# Altium schematic symbol library Memory - EEPROM.SchLib: 163 symbols (part 1 of 3)
Pins are listed as number, name and electrical type; pins without a type are passive.

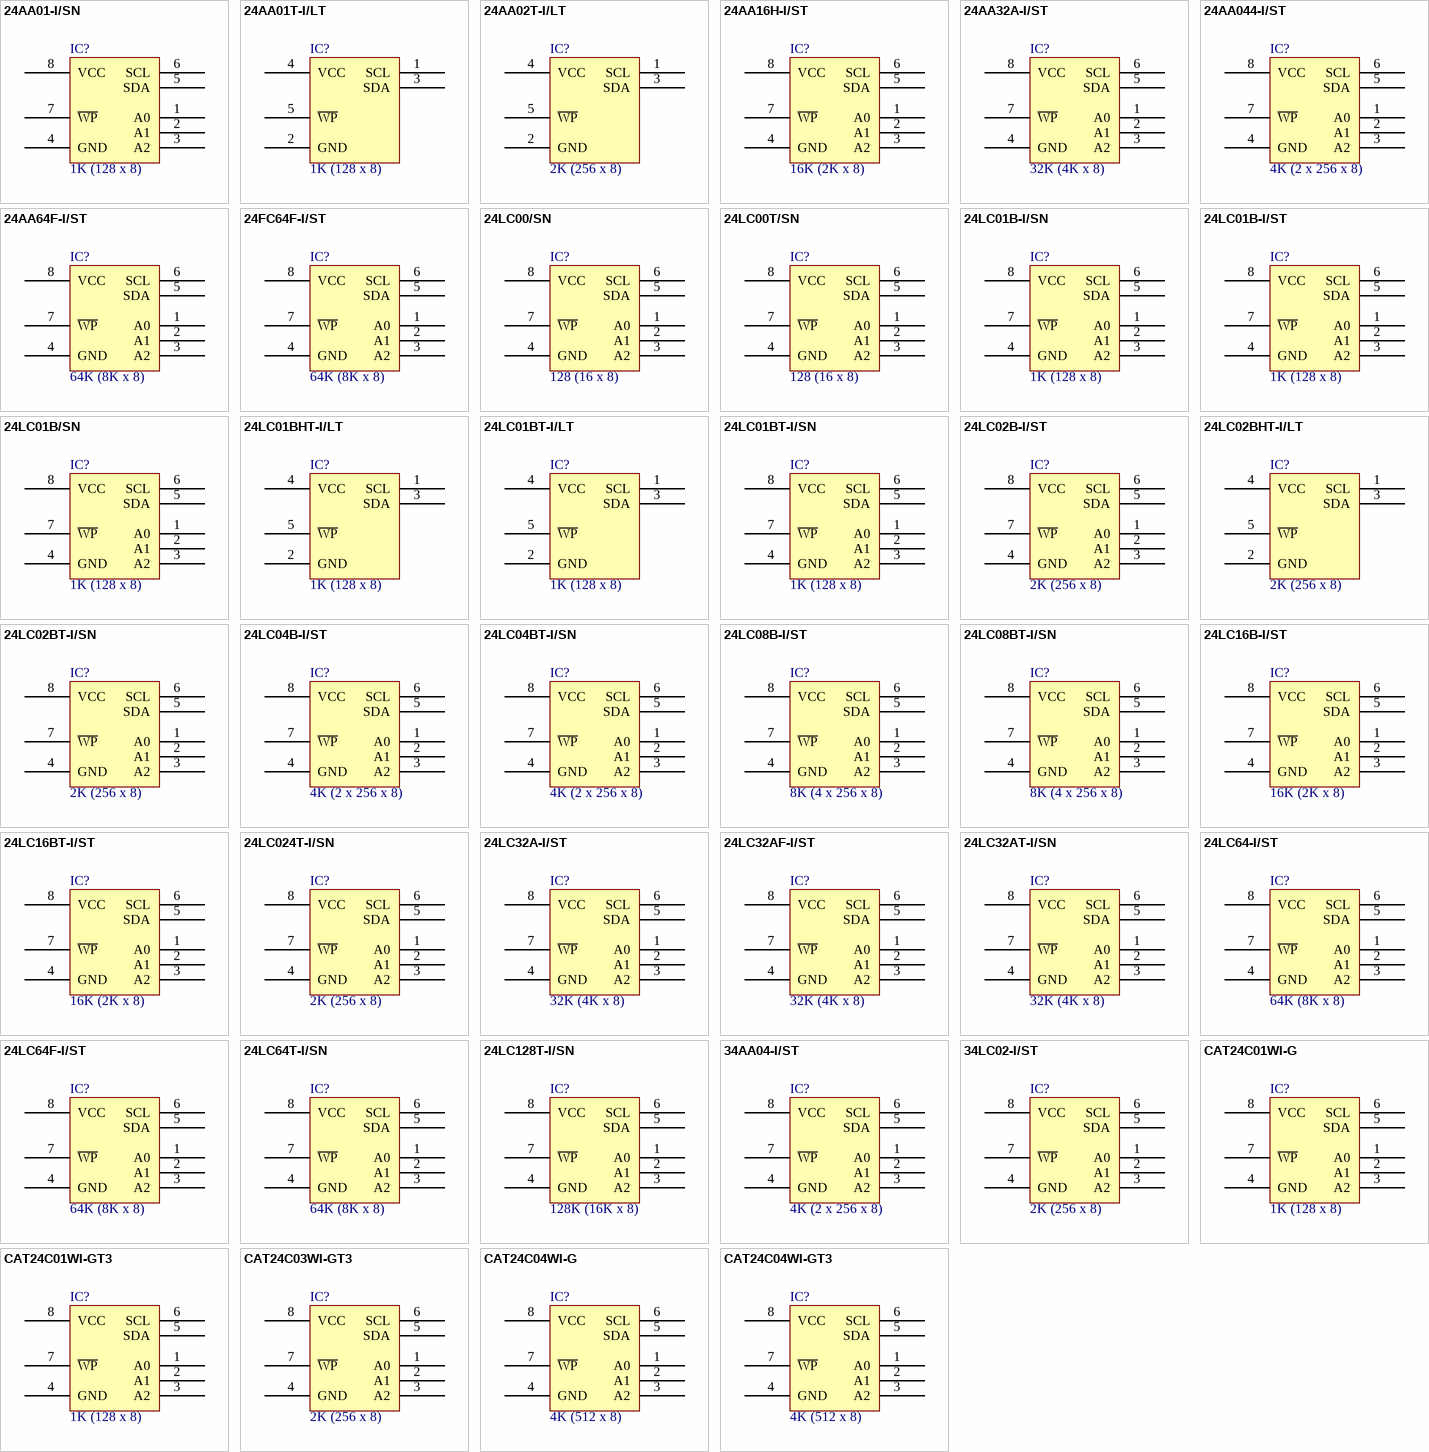
[diagram p0: symbols 24AA01-I/SN to CAT24C04WI-GT3]

## 24AA01-I/SN
designator IC?, comment 1K (128 x 8)
IC EEPROM 1KBIT 400KHZ 8SOIC; Part Number: 24AA01-I/SN; Manufacturer: Microchip Technology; Speed: 100kHz, 400kHz; Interface: IC, 2-Wire Serial; Voltage - Supply: 1.7 V ~ 5.5 V; PartId: 8385; Supplier 1: Digi-Key; Supplier Part Number 1: 24AA01-I/SN-ND; ComponentLink1Description: Datasheet; ComponentLink1URL: http://www.microchip.com/mymicrochip/filehandler.aspx?ddocname=en011831; ComponentLink2Description: Digi-Key Listing; ComponentLink2URL: http://www.digikey.com/product-detail/en/24AA01-I%2FSN/24AA01-I%2FSN-ND/318538; Price: 0.2; Type: EEPROM; Device Package: 8-SOIC (0.154", 3.90mm Width); Operating Temperature: -40C ~ 85C; Memory Type: EEPROM; Memory Size: 1K (128 x 8)
footprint MICROCHIP SOIC-8 150mil Wide
pins: 1 A0, 2 A1, 3 A2, 4 GND, 5 SDA, 6 SCL, 7 ~{WP}, 8 VCC

## 24AA01T-I/LT
designator IC?, comment 1K (128 x 8)
IC EEPROM 1KBIT 400KHZ SC70-5; Part Number: 24AA01T-I/LT; Manufacturer: Microchip Technology; Speed: 100kHz, 400kHz; Interface: IC, 2-Wire Serial; Voltage - Supply: 1.7 V ~ 5.5 V; PartId: 8396; Supplier 1: Digi-Key; Supplier Part Number 1: 24AA01T-I/LTTR-ND; ComponentLink1Description: Datasheet; ComponentLink1URL: http://www.microchip.com/mymicrochip/filehandler.aspx?ddocname=en011831; ComponentLink2Description: Digi-Key Listing; ComponentLink2URL: http://www.digikey.com/product-detail/en/24AA01T-I%2FLT/24AA01T-I%2FLTTR-ND/2059597; Price: 0.2; Type: EEPROM; Device Package: 5-TSSOP, SC-70-5, SOT-353; Operating Temperature: -40C ~ 85C; Memory Type: EEPROM; Memory Size: 1K (128 x 8)
footprint MICROCHIP SC70-5 LT
pins: 1 SCL, 2 GND, 3 SDA, 4 VCC, 5 ~{WP}

## 24AA02T-I/LT
designator IC?, comment 2K (256 x 8)
IC EEPROM 2KBIT 400KHZ SC70-5; Part Number: 24AA02T-I/LT; Manufacturer: Microchip Technology; Speed: 100kHz, 400kHz; Interface: IC, 2-Wire Serial; Voltage - Supply: 1.7 V ~ 5.5 V; PartId: 8398; Supplier 1: Digi-Key; Supplier Part Number 1: 24AA02T-I/LTTR-ND; ComponentLink1Description: Datasheet; ComponentLink1URL: http://www.microchip.com/mymicrochip/filehandler.aspx?ddocname=en011845; ComponentLink2Description: Digi-Key Listing; ComponentLink2URL: http://www.digikey.com/product-detail/en/24AA02T-I%2FLT/24AA02T-I%2FLTTR-ND/2059604; Price: 0.22; Type: EEPROM; Device Package: 5-TSSOP, SC-70-5, SOT-353; Operating Temperature: -40C ~ 85C; Memory Type: EEPROM; Memory Size: 2K (256 x 8)
footprint MICROCHIP SC70-5 LT
pins: 1 SCL, 2 GND, 3 SDA, 4 VCC, 5 ~{WP}

## 24AA16H-I/ST
designator IC?, comment 16K (2K x 8)
IC EEPROM 16KBIT 400KHZ 8TSSOP; Part Number: 24AA16H-I/ST; Manufacturer: Microchip Technology; Speed: 100kHz, 400kHz; Interface: IC, 2-Wire Serial; Voltage - Supply: 1.7 V ~ 5.5 V; PartId: 8324; Supplier 1: Digi-Key; Supplier Part Number 1: 24AA16H-I/ST-ND; ComponentLink1Description: Datasheet; ComponentLink1URL: http://www.microchip.com/mymicrochip/filehandler.aspx?ddocname=en538685; ComponentLink2Description: Digi-Key Listing; ComponentLink2URL: http://www.digikey.com/product-detail/en/24AA16H-I%2FST/24AA16H-I%2FST-ND/2059792; Price: 0.32; Type: EEPROM; Device Package: 8-TSSOP (0.173", 4.40mm Width); Operating Temperature: -40C ~ 85C; Memory Type: EEPROM; Memory Size: 16K (2K x 8)
footprint MICROCHIP TSSOP-8 ST
pins: 1 A0, 2 A1, 3 A2, 4 GND, 5 SDA, 6 SCL, 7 ~{WP}, 8 VCC

## 24AA32A-I/ST
designator IC?, comment 32K (4K x 8)
IC EEPROM 32KBIT 400KHZ 8TSSOP; Part Number: 24AA32A-I/ST; Manufacturer: Microchip Technology; Speed: 100kHz, 400kHz; Interface: IC, 2-Wire Serial; Voltage - Supply: 1.7 V ~ 5.5 V; PartId: 8325; Supplier 1: Digi-Key; Supplier Part Number 1: 24AA32A-I/ST-ND; ComponentLink1Description: Datasheet; ComponentLink1URL: http://www.microchip.com/mymicrochip/filehandler.aspx?ddocname=en011853; ComponentLink2Description: Digi-Key Listing; ComponentLink2URL: http://www.digikey.com/product-detail/en/24AA32A-I%2FST/24AA32A-I%2FST-ND/443586; Price: 0.38; Type: EEPROM; Device Package: 8-TSSOP (0.173", 4.40mm Width); Operating Temperature: -40C ~ 85C; Memory Type: EEPROM; Memory Size: 32K (4K x 8)
footprint MICROCHIP TSSOP-8 ST
pins: 1 A0, 2 A1, 3 A2, 4 GND, 5 SDA, 6 SCL, 7 ~{WP}, 8 VCC

## 24AA044-I/ST
designator IC?, comment 4K (2 x 256 x 8)
IC SEEPROM 4KB 512X8 8TSSOP; Part Number: 24AA044-I/ST; Manufacturer: Microchip Technology; Memory Type: EEPROM; Speed: 100kHz, 400kHz, 1MHz; Interface: IC, 2-Wire Serial; Voltage - Supply: 1.7 V ~ 5.5 V; PartId: 8319; Supplier 1: Digi-Key; Supplier Part Number 1: 24AA044-I/ST-ND; ComponentLink1Description: Datasheet; ComponentLink1URL: http://www.microchip.com/mymicrochip/filehandler.aspx?ddocname=en569273; ComponentLink2Description: Digi-Key Listing; ComponentLink2URL: http://www.digikey.com/product-detail/en/24AA044-I%2FST/24AA044-I%2FST-ND/4842794; Price: 0.28; Type: EEPROM; Device Package: 8-TSSOP (0.173", 4.40mm Width); Operating Temperature: -40C ~ 85C; Memory Size: 4K (2 x 256 x 8)
footprint MICROCHIP TSSOP-8 ST
pins: 1 A0, 2 A1, 3 A2, 4 GND, 5 SDA, 6 SCL, 7 ~{WP}, 8 VCC

## 24AA64F-I/ST
designator IC?, comment 64K (8K x 8)
IC EEPROM 64KBIT 400KHZ 8TSSOP; Part Number: 24AA64F-I/ST; Manufacturer: Microchip Technology; Speed: 100kHz, 400kHz; Interface: IC, 2-Wire Serial; Voltage - Supply: 1.71 V ~ 5.5 V; PartId: 8330; Supplier 1: Digi-Key; Supplier Part Number 1: 24AA64F-I/ST-ND; ComponentLink1Description: Datasheet; ComponentLink1URL: http://www.microchip.com/mymicrochip/filehandler.aspx?ddocname=en541451; ComponentLink2Description: Digi-Key Listing; ComponentLink2URL: http://www.digikey.com/product-detail/en/24AA64F-I%2FST/24AA64F-I%2FST-ND/2125470; Price: 0.42; Type: EEPROM; Device Package: 8-TSSOP (0.173", 4.40mm Width); Operating Temperature: -40C ~ 85C; Memory Type: EEPROM; Memory Size: 64K (8K x 8)
footprint MICROCHIP TSSOP-8 ST
pins: 1 A0, 2 A1, 3 A2, 4 GND, 5 SDA, 6 SCL, 7 ~{WP}, 8 VCC

## 24FC64F-I/ST
designator IC?, comment 64K (8K x 8)
IC EEPROM 64KBIT 1MHZ 8TSSOP; Part Number: 24FC64F-I/ST; Manufacturer: Microchip Technology; Speed: 400kHz, 1MHz; Interface: IC, 2-Wire Serial; Voltage - Supply: 1.7 V ~ 5.5 V; PartId: 8329; Supplier 1: Digi-Key; Supplier Part Number 1: 24FC64F-I/ST-ND; ComponentLink1Description: Datasheet; ComponentLink1URL: http://www.microchip.com/mymicrochip/filehandler.aspx?ddocname=en541451; ComponentLink2Description: Digi-Key Listing; ComponentLink2URL: http://www.digikey.com/product-detail/en/24FC64F-I%2FST/24FC64F-I%2FST-ND/2665921; Price: 0.42; Type: EEPROM; Device Package: 8-TSSOP (0.173", 4.40mm Width); Operating Temperature: -40C ~ 85C; Memory Type: EEPROM; Memory Size: 64K (8K x 8)
footprint MICROCHIP TSSOP-8 ST
pins: 1 A0, 2 A1, 3 A2, 4 GND, 5 SDA, 6 SCL, 7 ~{WP}, 8 VCC

## 24LC00/SN
designator IC?, comment 128 (16 x 8)
IC EEPROM 128BIT 400KHZ 8SOIC; Part Number: 24LC00/SN; Manufacturer: Microchip Technology; Speed: 100kHz, 400kHz; Interface: IC, 2-Wire Serial; Voltage - Supply: 2.5 V ~ 5.5 V; PartId: 8386; Supplier 1: Digi-Key; Supplier Part Number 1: 24LC00/SN-ND; ComponentLink1Description: Datasheet; ComponentLink1URL: http://www.microchip.com/mymicrochip/filehandler.aspx?ddocname=en011773; ComponentLink2Description: Digi-Key Listing; ComponentLink2URL: http://www.digikey.com/product-detail/en/24LC00%2FSN/24LC00%2FSN-ND/264011; Price: 0.2; Type: EEPROM; Device Package: 8-SOIC (0.154", 3.90mm Width); Operating Temperature: 0C ~ 70C; Memory Type: EEPROM; Memory Size: 128 (16 x 8)
footprint MICROCHIP SOIC-8 150mil Wide
pins: 1 A0, 2 A1, 3 A2, 4 GND, 5 SDA, 6 SCL, 7 ~{WP}, 8 VCC

## 24LC00T/SN
designator IC?, comment 128 (16 x 8)
IC EEPROM 128BIT 400KHZ 8SOIC; Part Number: 24LC00T/SN; Manufacturer: Microchip Technology; Speed: 100kHz, 400kHz; Interface: IC, 2-Wire Serial; Voltage - Supply: 2.5 V ~ 5.5 V; PartId: 8387; Supplier 1: Digi-Key; Supplier Part Number 1: 24LC00T/SN-ND; ComponentLink1Description: Datasheet; ComponentLink1URL: http://www.microchip.com/mymicrochip/filehandler.aspx?ddocname=en011773; ComponentLink2Description: Digi-Key Listing; ComponentLink2URL: http://www.digikey.com/product-detail/en/24LC00T%2FSN/24LC00T%2FSN-ND/318647; Price: 0.19; Type: EEPROM; Device Package: 8-SOIC (0.154", 3.90mm Width); Operating Temperature: 0C ~ 70C; Memory Type: EEPROM; Memory Size: 128 (16 x 8)
footprint MICROCHIP SOIC-8 150mil Wide
pins: 1 A0, 2 A1, 3 A2, 4 GND, 5 SDA, 6 SCL, 7 ~{WP}, 8 VCC

## 24LC01B-I/SN
designator IC?, comment 1K (128 x 8)
IC EEPROM 1KBIT 400KHZ 8SOIC; Part Number: 24LC01B-I/SN; Manufacturer: Microchip Technology; Interface: IC, 2-Wire Serial; Voltage - Supply: 2.5 V ~ 5.5 V; PartId: 8384; Supplier 1: Digi-Key; Supplier Part Number 1: 24LC01B-I/SN-ND; ComponentLink1Description: Datasheet; ComponentLink1URL: http://www.microchip.com/mymicrochip/filehandler.aspx?ddocname=en011831; ComponentLink2Description: Digi-Key Listing; ComponentLink2URL: http://www.digikey.com/product-detail/en/24LC01B-I%2FSN/24LC01B-I%2FSN-ND/218076; Price: 0.2; Type: EEPROM; Device Package: 8-SOIC (0.154", 3.90mm Width); Operating Temperature: -40C ~ 85C; Memory Type: EEPROM; Memory Size: 1K (128 x 8); Speed: 400kHz
footprint MICROCHIP SOIC-8 150mil Wide
pins: 1 A0, 2 A1, 3 A2, 4 GND, 5 SDA, 6 SCL, 7 ~{WP}, 8 VCC

## 24LC01B-I/ST
designator IC?, comment 1K (128 x 8)
IC EEPROM 1KBIT 400KHZ 8TSSOP; Part Number: 24LC01B-I/ST; Manufacturer: Microchip Technology; Interface: IC, 2-Wire Serial; Voltage - Supply: 2.5 V ~ 5.5 V; PartId: 8315; Supplier 1: Digi-Key; Supplier Part Number 1: 24LC01B-I/ST-ND; ComponentLink1Description: Datasheet; ComponentLink1URL: http://www.microchip.com/mymicrochip/filehandler.aspx?ddocname=en011831; ComponentLink2Description: Digi-Key Listing; ComponentLink2URL: http://www.digikey.com/product-detail/en/24LC01B-I%2FST/24LC01B-I%2FST-ND/318650; Price: 0.24; Type: EEPROM; Device Package: 8-TSSOP (0.173", 4.40mm Width); Operating Temperature: -40C ~ 85C; Memory Type: EEPROM; Memory Size: 1K (128 x 8); Speed: 400kHz
footprint MICROCHIP TSSOP-8 ST
pins: 1 A0, 2 A1, 3 A2, 4 GND, 5 SDA, 6 SCL, 7 ~{WP}, 8 VCC

## 24LC01B/SN
designator IC?, comment 1K (128 x 8)
IC EEPROM 1KBIT 400KHZ 8SOIC; Part Number: 24LC01B/SN; Manufacturer: Microchip Technology; Interface: IC, 2-Wire Serial; Voltage - Supply: 2.5 V ~ 5.5 V; PartId: 8383; Supplier 1: Digi-Key; Supplier Part Number 1: 24LC01B/SN-ND; ComponentLink1Description: Datasheet; ComponentLink1URL: http://www.microchip.com/mymicrochip/filehandler.aspx?ddocname=en011831; ComponentLink2Description: Digi-Key Listing; ComponentLink2URL: http://www.digikey.com/product-detail/en/24LC01B%2FSN/24LC01B%2FSN-ND/170132; Price: 0.2; Type: EEPROM; Device Package: 8-SOIC (0.154", 3.90mm Width); Operating Temperature: 0C ~ 70C; Memory Type: EEPROM; Memory Size: 1K (128 x 8); Speed: 400kHz
footprint MICROCHIP SOIC-8 150mil Wide
pins: 1 A0, 2 A1, 3 A2, 4 GND, 5 SDA, 6 SCL, 7 ~{WP}, 8 VCC

## 24LC01BHT-I/LT
designator IC?, comment 1K (128 x 8)
IC EEPROM 1KBIT 400KHZ SC70-5; Part Number: 24LC01BHT-I/LT; Manufacturer: Microchip Technology; Interface: IC, 2-Wire Serial; Voltage - Supply: 2.5 V ~ 5.5 V; PartId: 8399; Supplier 1: Digi-Key; Supplier Part Number 1: 24LC01BHT-I/LTTR-ND; ComponentLink1Description: Datasheet; ComponentLink1URL: http://www.microchip.com/mymicrochip/filehandler.aspx?ddocname=en537420; ComponentLink2Description: Digi-Key Listing; ComponentLink2URL: http://www.digikey.com/product-detail/en/24LC01BHT-I%2FLT/24LC01BHT-I%2FLTTR-ND/2059623; Price: 0.2; Type: EEPROM; Device Package: 5-TSSOP, SC-70-5, SOT-353; Operating Temperature: -40C ~ 85C; Memory Type: EEPROM; Memory Size: 1K (128 x 8); Speed: 400kHz
footprint MICROCHIP SC70-5 LT
pins: 1 SCL, 2 GND, 3 SDA, 4 VCC, 5 ~{WP}

## 24LC01BT-I/LT
designator IC?, comment 1K (128 x 8)
IC EEPROM 1KBIT 400KHZ SC70-5; Part Number: 24LC01BT-I/LT; Manufacturer: Microchip Technology; Interface: IC, 2-Wire Serial; Voltage - Supply: 2.5 V ~ 5.5 V; PartId: 8395; Supplier 1: Digi-Key; Supplier Part Number 1: 24LC01BT-I/LTTR-ND; ComponentLink1Description: Datasheet; ComponentLink1URL: http://www.microchip.com/mymicrochip/filehandler.aspx?ddocname=en011831; ComponentLink2Description: Digi-Key Listing; ComponentLink2URL: http://www.digikey.com/product-detail/en/24LC01BT-I%2FLT/24LC01BT-I%2FLTTR-ND/2039838; Price: 0.2; Type: EEPROM; Device Package: 5-TSSOP, SC-70-5, SOT-353; Operating Temperature: -40C ~ 85C; Memory Type: EEPROM; Memory Size: 1K (128 x 8); Speed: 400kHz
footprint MICROCHIP SC70-5 LT
pins: 1 SCL, 2 GND, 3 SDA, 4 VCC, 5 ~{WP}

## 24LC01BT-I/SN
designator IC?, comment 1K (128 x 8)
IC EEPROM 1KBIT 400KHZ 8SOIC; Part Number: 24LC01BT-I/SN; Manufacturer: Microchip Technology; Interface: IC, 2-Wire Serial; Voltage - Supply: 2.5 V ~ 5.5 V; PartId: 8382; Supplier 1: Digi-Key; Supplier Part Number 1: 24LC01BT-I/SNTR-ND; ComponentLink1Description: Datasheet; ComponentLink1URL: http://www.microchip.com/mymicrochip/filehandler.aspx?ddocname=en011831; ComponentLink2Description: Digi-Key Listing; ComponentLink2URL: http://www.digikey.com/product-detail/en/24LC01BT-I%2FSN/24LC01BT-I%2FSNTR-ND/318652; Price: 0.19; Type: EEPROM; Device Package: 8-SOIC (0.154", 3.90mm Width); Operating Temperature: -40C ~ 85C; Memory Type: EEPROM; Memory Size: 1K (128 x 8); Speed: 400kHz
footprint MICROCHIP SOIC-8 150mil Wide
pins: 1 A0, 2 A1, 3 A2, 4 GND, 5 SDA, 6 SCL, 7 ~{WP}, 8 VCC

## 24LC02B-I/ST
designator IC?, comment 2K (256 x 8)
IC EEPROM 2KBIT 400KHZ 8TSSOP; Part Number: 24LC02B-I/ST; Manufacturer: Microchip Technology; Interface: IC, 2-Wire Serial; Voltage - Supply: 2.5 V ~ 5.5 V; PartId: 8316; Supplier 1: Digi-Key; Supplier Part Number 1: 24LC02B-I/ST-ND; ComponentLink1Description: Datasheet; ComponentLink1URL: http://www.microchip.com/mymicrochip/filehandler.aspx?ddocname=en011845; ComponentLink2Description: Digi-Key Listing; ComponentLink2URL: http://www.digikey.com/product-detail/en/24LC02B-I%2FST/24LC02B-I%2FST-ND/362024; Price: 0.26; Type: EEPROM; Device Package: 8-TSSOP (0.173", 4.40mm Width); Operating Temperature: -40C ~ 85C; Memory Type: EEPROM; Memory Size: 2K (256 x 8); Speed: 400kHz
footprint MICROCHIP TSSOP-8 ST
pins: 1 A0, 2 A1, 3 A2, 4 GND, 5 SDA, 6 SCL, 7 ~{WP}, 8 VCC

## 24LC02BHT-I/LT
designator IC?, comment 2K (256 x 8)
IC EEPROM 2KBIT 400KHZ SC70-5; Part Number: 24LC02BHT-I/LT; Manufacturer: Microchip Technology; Interface: IC, 2-Wire Serial; Voltage - Supply: 2.5 V ~ 5.5 V; PartId: 8397; Supplier 1: Digi-Key; Supplier Part Number 1: 24LC02BHT-I/LTTR-ND; ComponentLink1Description: Datasheet; ComponentLink1URL: http://www.microchip.com/mymicrochip/filehandler.aspx?ddocname=en537426; ComponentLink2Description: Digi-Key Listing; ComponentLink2URL: http://www.digikey.com/product-detail/en/24LC02BHT-I%2FLT/24LC02BHT-I%2FLTTR-ND/2059629; Price: 0.22; Type: EEPROM; Device Package: 5-TSSOP, SC-70-5, SOT-353; Operating Temperature: -40C ~ 85C; Memory Type: EEPROM; Memory Size: 2K (256 x 8); Speed: 400kHz
footprint MICROCHIP SC70-5 LT
pins: 1 SCL, 2 GND, 3 SDA, 4 VCC, 5 ~{WP}

## 24LC02BT-I/SN
designator IC?, comment 2K (256 x 8)
IC EEPROM 2KBIT 400KHZ 8SOIC; Part Number: 24LC02BT-I/SN; Manufacturer: Microchip Technology; Interface: IC, 2-Wire Serial; Voltage - Supply: 2.5 V ~ 5.5 V; PartId: 8388; Supplier 1: Digi-Key; Supplier Part Number 1: 24LC02BT-I/SNTR-ND; ComponentLink1Description: Datasheet; ComponentLink1URL: http://www.microchip.com/mymicrochip/filehandler.aspx?ddocname=en011845; ComponentLink2Description: Digi-Key Listing; ComponentLink2URL: http://www.digikey.com/product-detail/en/24LC02BT-I%2FSN/24LC02BT-I%2FSNTR-ND/318667; Price: 0.2; Type: EEPROM; Device Package: 8-SOIC (0.154", 3.90mm Width); Operating Temperature: -40C ~ 85C; Memory Type: EEPROM; Memory Size: 2K (256 x 8); Speed: 400kHz
footprint MICROCHIP SOIC-8 150mil Wide
pins: 1 A0, 2 A1, 3 A2, 4 GND, 5 SDA, 6 SCL, 7 ~{WP}, 8 VCC

## 24LC04B-I/ST
designator IC?, comment 4K (2 x 256 x 8)
IC EEPROM 4KBIT 400KHZ 8TSSOP; Part Number: 24LC04B-I/ST; Manufacturer: Microchip Technology; Interface: IC, 2-Wire Serial; Voltage - Supply: 2.5 V ~ 5.5 V; PartId: 8318; Supplier 1: Digi-Key; Supplier Part Number 1: 24LC04B-I/ST-ND; ComponentLink1Description: Datasheet; ComponentLink1URL: http://www.microchip.com/mymicrochip/filehandler.aspx?ddocname=en011857; ComponentLink2Description: Digi-Key Listing; ComponentLink2URL: http://www.digikey.com/product-detail/en/24LC04B-I%2FST/24LC04B-I%2FST-ND/362633; Price: 0.28; Type: EEPROM; Device Package: 8-TSSOP (0.173", 4.40mm Width); Operating Temperature: -40C ~ 85C; Memory Type: EEPROM; Memory Size: 4K (2 x 256 x 8); Speed: 400kHz
footprint MICROCHIP TSSOP-8 ST
pins: 1 A0, 2 A1, 3 A2, 4 GND, 5 SDA, 6 SCL, 7 ~{WP}, 8 VCC

## 24LC04BT-I/SN
designator IC?, comment 4K (2 x 256 x 8)
IC EEPROM 4KBIT 400KHZ 8SOIC; Part Number: 24LC04BT-I/SN; Manufacturer: Microchip Technology; Interface: IC, 2-Wire Serial; Voltage - Supply: 2.5 V ~ 5.5 V; PartId: 8389; Supplier 1: Digi-Key; Supplier Part Number 1: 24LC04BT-I/SNTR-ND; ComponentLink1Description: Datasheet; ComponentLink1URL: http://www.microchip.com/mymicrochip/filehandler.aspx?ddocname=en011857; ComponentLink2Description: Digi-Key Listing; ComponentLink2URL: http://www.digikey.com/product-detail/en/24LC04BT-I%2FSN/24LC04BT-I%2FSNTR-ND/318669; Price: 0.22; Type: EEPROM; Device Package: 8-SOIC (0.154", 3.90mm Width); Operating Temperature: -40C ~ 85C; Memory Type: EEPROM; Memory Size: 4K (2 x 256 x 8); Speed: 400kHz
footprint MICROCHIP SOIC-8 150mil Wide
pins: 1 A0, 2 A1, 3 A2, 4 GND, 5 SDA, 6 SCL, 7 ~{WP}, 8 VCC

## 24LC08B-I/ST
designator IC?, comment 8K (4 x 256 x 8)
IC EEPROM 8KBIT 400KHZ 8TSSOP; Part Number: 24LC08B-I/ST; Manufacturer: Microchip Technology; Interface: IC, 2-Wire Serial; Voltage - Supply: 2.5 V ~ 5.5 V; PartId: 8320; Supplier 1: Digi-Key; Supplier Part Number 1: 24LC08B-I/ST-ND; ComponentLink1Description: Datasheet; ComponentLink1URL: http://www.microchip.com/mymicrochip/filehandler.aspx?ddocname=en011847; ComponentLink2Description: Digi-Key Listing; ComponentLink2URL: http://www.digikey.com/product-detail/en/24LC08B-I%2FST/24LC08B-I%2FST-ND/362029; Price: 0.3; Type: EEPROM; Device Package: 8-TSSOP (0.173", 4.40mm Width); Operating Temperature: -40C ~ 85C; Memory Type: EEPROM; Memory Size: 8K (4 x 256 x 8); Speed: 400kHz
footprint MICROCHIP TSSOP-8 ST
pins: 1 A0, 2 A1, 3 A2, 4 GND, 5 SDA, 6 SCL, 7 ~{WP}, 8 VCC

## 24LC08BT-I/SN
designator IC?, comment 8K (4 x 256 x 8)
IC EEPROM 8KBIT 400KHZ 8SOIC; Part Number: 24LC08BT-I/SN; Manufacturer: Microchip Technology; Interface: IC, 2-Wire Serial; Voltage - Supply: 2.5 V ~ 5.5 V; PartId: 8391; Supplier 1: Digi-Key; Supplier Part Number 1: 24LC08BT-I/SNTR-ND; ComponentLink1Description: Datasheet; ComponentLink1URL: http://www.microchip.com/mymicrochip/filehandler.aspx?ddocname=en011847; ComponentLink2Description: Digi-Key Listing; ComponentLink2URL: http://www.digikey.com/product-detail/en/24LC08BT-I%2FSN/24LC08BT-I%2FSNTR-ND/318673; Price: 0.24; Type: EEPROM; Device Package: 8-SOIC (0.154", 3.90mm Width); Operating Temperature: -40C ~ 85C; Memory Type: EEPROM; Memory Size: 8K (4 x 256 x 8); Speed: 400kHz
footprint MICROCHIP SOIC-8 150mil Wide
pins: 1 A0, 2 A1, 3 A2, 4 GND, 5 SDA, 6 SCL, 7 ~{WP}, 8 VCC

## 24LC16B-I/ST
designator IC?, comment 16K (2K x 8)
IC EEPROM 16KBIT 400KHZ 8TSSOP; Part Number: 24LC16B-I/ST; Manufacturer: Microchip Technology; Interface: IC, 2-Wire Serial; Voltage - Supply: 2.5 V ~ 5.5 V; PartId: 8323; Supplier 1: Digi-Key; Supplier Part Number 1: 24LC16B-I/ST-ND; ComponentLink1Description: Datasheet; ComponentLink1URL: http://www.microchip.com/mymicrochip/filehandler.aspx?ddocname=en011855; ComponentLink2Description: Digi-Key Listing; ComponentLink2URL: http://www.digikey.com/product-detail/en/24LC16B-I%2FST/24LC16B-I%2FST-ND/318682; Price: 0.32; Type: EEPROM; Device Package: 8-TSSOP (0.173", 4.40mm Width); Operating Temperature: -40C ~ 85C; Memory Type: EEPROM; Memory Size: 16K (2K x 8); Speed: 400kHz
footprint MICROCHIP TSSOP-8 ST
pins: 1 A0, 2 A1, 3 A2, 4 GND, 5 SDA, 6 SCL, 7 ~{WP}, 8 VCC

## 24LC16BT-I/ST
designator IC?, comment 16K (2K x 8)
IC EEPROM 16KBIT 400KHZ 8TSSOP; Part Number: 24LC16BT-I/ST; Manufacturer: Microchip Technology; Interface: IC, 2-Wire Serial; Voltage - Supply: 2.5 V ~ 5.5 V; PartId: 8322; Supplier 1: Digi-Key; Supplier Part Number 1: 24LC16BT-I/STTR-ND; ComponentLink1Description: Datasheet; ComponentLink1URL: http://www.microchip.com/mymicrochip/filehandler.aspx?ddocname=en011855; ComponentLink2Description: Digi-Key Listing; ComponentLink2URL: http://www.digikey.com/product-detail/en/24LC16BT-I%2FST/24LC16BT-I%2FSTTR-ND/318684; Price: 0.3; Type: EEPROM; Device Package: 8-TSSOP (0.173", 4.40mm Width); Operating Temperature: -40C ~ 85C; Memory Type: EEPROM; Memory Size: 16K (2K x 8); Speed: 400kHz
footprint MICROCHIP TSSOP-8 ST
pins: 1 A0, 2 A1, 3 A2, 4 GND, 5 SDA, 6 SCL, 7 ~{WP}, 8 VCC

## 24LC024T-I/SN
designator IC?, comment 2K (256 x 8)
IC EEPROM 2KBIT 400KHZ 8SOIC; Part Number: 24LC024T-I/SN; Manufacturer: Microchip Technology; Interface: IC, 2-Wire Serial; Voltage - Supply: 2.5 V ~ 5.5 V; PartId: 8390; Supplier 1: Digi-Key; Supplier Part Number 1: 24LC024T-I/SNTR-ND; ComponentLink1Description: Datasheet; ComponentLink1URL: http://www.microchip.com/mymicrochip/filehandler.aspx?ddocname=en013942; ComponentLink2Description: Digi-Key Listing; ComponentLink2URL: http://www.digikey.com/product-detail/en/24LC024T-I%2FSN/24LC024T-I%2FSNTR-ND/318658; Price: 0.24; Type: EEPROM; Device Package: 8-SOIC (0.154", 3.90mm Width); Operating Temperature: -40C ~ 85C; Memory Type: EEPROM; Memory Size: 2K (256 x 8); Speed: 400kHz
footprint MICROCHIP SOIC-8 150mil Wide
pins: 1 A0, 2 A1, 3 A2, 4 GND, 5 SDA, 6 SCL, 7 ~{WP}, 8 VCC

## 24LC32A-I/ST
designator IC?, comment 32K (4K x 8)
IC EEPROM 32KBIT 400KHZ 8TSSOP; Part Number: 24LC32A-I/ST; Manufacturer: Microchip Technology; Interface: IC, 2-Wire Serial; Voltage - Supply: 2.5 V ~ 5.5 V; PartId: 8327; Supplier 1: Digi-Key; Supplier Part Number 1: 24LC32A-I/ST-ND; ComponentLink1Description: Datasheet; ComponentLink1URL: http://www.microchip.com/mymicrochip/filehandler.aspx?ddocname=en011853; ComponentLink2Description: Digi-Key Listing; ComponentLink2URL: http://www.digikey.com/product-detail/en/24LC32A-I%2FST/24LC32A-I%2FST-ND/443589; Price: 0.38; Type: EEPROM; Device Package: 8-TSSOP (0.173", 4.40mm Width); Operating Temperature: -40C ~ 85C; Memory Type: EEPROM; Memory Size: 32K (4K x 8); Speed: 400kHz
footprint MICROCHIP TSSOP-8 ST
pins: 1 A0, 2 A1, 3 A2, 4 GND, 5 SDA, 6 SCL, 7 ~{WP}, 8 VCC

## 24LC32AF-I/ST
designator IC?, comment 32K (4K x 8)
IC EEPROM 32KBIT 400KHZ 8TSSOP; Part Number: 24LC32AF-I/ST; Manufacturer: Microchip Technology; Interface: IC, 2-Wire Serial; Voltage - Supply: 2.5 V ~ 5.5 V; PartId: 8326; Supplier 1: Digi-Key; Supplier Part Number 1: 24LC32AF-I/ST-ND; ComponentLink1Description: Datasheet; ComponentLink1URL: http://www.microchip.com/mymicrochip/filehandler.aspx?ddocname=en542020; ComponentLink2Description: Digi-Key Listing; ComponentLink2URL: http://www.digikey.com/product-detail/en/24LC32AF-I%2FST/24LC32AF-I%2FST-ND/2125474; Price: 0.38; Type: EEPROM; Device Package: 8-TSSOP (0.173", 4.40mm Width); Operating Temperature: -40C ~ 85C; Memory Type: EEPROM; Memory Size: 32K (4K x 8); Speed: 400kHz
footprint MICROCHIP TSSOP-8 ST
pins: 1 A0, 2 A1, 3 A2, 4 GND, 5 SDA, 6 SCL, 7 ~{WP}, 8 VCC

## 24LC32AT-I/SN
designator IC?, comment 32K (4K x 8)
IC EEPROM 32KBIT 400KHZ 8SOIC; Part Number: 24LC32AT-I/SN; Manufacturer: Microchip Technology; Interface: IC, 2-Wire Serial; Voltage - Supply: 2.5 V ~ 5.5 V; PartId: 8392; Supplier 1: Digi-Key; Supplier Part Number 1: 24LC32AT-I/SNTR-ND; ComponentLink1Description: Datasheet; ComponentLink1URL: http://www.microchip.com/mymicrochip/filehandler.aspx?ddocname=en011853; ComponentLink2Description: Digi-Key Listing; ComponentLink2URL: http://www.digikey.com/product-detail/en/24LC32AT-I%2FSN/24LC32AT-I%2FSNTR-ND/285049; Price: 0.31; Type: EEPROM; Device Package: 8-SOIC (0.154", 3.90mm Width); Operating Temperature: -40C ~ 85C; Memory Type: EEPROM; Memory Size: 32K (4K x 8); Speed: 400kHz
footprint MICROCHIP SOIC-8 150mil Wide
pins: 1 A0, 2 A1, 3 A2, 4 GND, 5 SDA, 6 SCL, 7 ~{WP}, 8 VCC

## 24LC64-I/ST
designator IC?, comment 64K (8K x 8)
IC EEPROM 64KBIT 400KHZ 8TSSOP; Part Number: 24LC64-I/ST; Manufacturer: Microchip Technology; Interface: IC, 2-Wire Serial; Voltage - Supply: 2.5 V ~ 5.5 V; PartId: 8328; Supplier 1: Digi-Key; Supplier Part Number 1: 24LC64-I/ST-ND; ComponentLink1Description: Datasheet; ComponentLink1URL: http://www.microchip.com/mymicrochip/filehandler.aspx?ddocname=en011843; ComponentLink2Description: Digi-Key Listing; ComponentLink2URL: http://www.digikey.com/product-detail/en/24LC64-I%2FST/24LC64-I%2FST-ND/443537; Price: 0.42; Type: EEPROM; Device Package: 8-TSSOP (0.173", 4.40mm Width); Operating Temperature: -40C ~ 85C; Memory Type: EEPROM; Memory Size: 64K (8K x 8); Speed: 400kHz
footprint MICROCHIP TSSOP-8 ST
pins: 1 A0, 2 A1, 3 A2, 4 GND, 5 SDA, 6 SCL, 7 ~{WP}, 8 VCC

## 24LC64F-I/ST
designator IC?, comment 64K (8K x 8)
IC EEPROM 64KBIT 400KHZ 8TSSOP; Part Number: 24LC64F-I/ST; Manufacturer: Microchip Technology; Interface: IC, 2-Wire Serial; Voltage - Supply: 2.5 V ~ 5.5 V; PartId: 8331; Supplier 1: Digi-Key; Supplier Part Number 1: 24LC64F-I/ST-ND; ComponentLink1Description: Datasheet; ComponentLink1URL: http://www.microchip.com/mymicrochip/filehandler.aspx?ddocname=en541451; ComponentLink2Description: Digi-Key Listing; ComponentLink2URL: http://www.digikey.com/product-detail/en/24LC64F-I%2FST/24LC64F-I%2FST-ND/2125478; Price: 0.42; Type: EEPROM; Device Package: 8-TSSOP (0.173", 4.40mm Width); Operating Temperature: -40C ~ 85C; Memory Type: EEPROM; Memory Size: 64K (8K x 8); Speed: 400kHz
footprint MICROCHIP TSSOP-8 ST
pins: 1 A0, 2 A1, 3 A2, 4 GND, 5 SDA, 6 SCL, 7 ~{WP}, 8 VCC

## 24LC64T-I/SN
designator IC?, comment 64K (8K x 8)
IC EEPROM 64KBIT 400KHZ 8SOIC; Part Number: 24LC64T-I/SN; Manufacturer: Microchip Technology; Interface: IC, 2-Wire Serial; Voltage - Supply: 2.5 V ~ 5.5 V; PartId: 8393; Supplier 1: Digi-Key; Supplier Part Number 1: 24LC64T-I/SNTR-ND; ComponentLink1Description: Datasheet; ComponentLink1URL: http://www.microchip.com/mymicrochip/filehandler.aspx?ddocname=en011843; ComponentLink2Description: Digi-Key Listing; ComponentLink2URL: http://www.digikey.com/product-detail/en/24LC64T-I%2FSN/24LC64T-I%2FSNTR-ND/318715; Price: 0.35; Type: EEPROM; Device Package: 8-SOIC (0.154", 3.90mm Width); Operating Temperature: -40C ~ 85C; Memory Type: EEPROM; Memory Size: 64K (8K x 8); Speed: 400kHz
footprint MICROCHIP SOIC-8 150mil Wide
pins: 1 A0, 2 A1, 3 A2, 4 GND, 5 SDA, 6 SCL, 7 ~{WP}, 8 VCC

## 24LC128T-I/SN
designator IC?, comment 128K (16K x 8)
IC EEPROM 128KBIT 400KHZ 8SOIC; Part Number: 24LC128T-I/SN; Manufacturer: Microchip Technology; Interface: IC, 2-Wire Serial; Voltage - Supply: 2.5 V ~ 5.5 V; PartId: 8394; Supplier 1: Digi-Key; Supplier Part Number 1: 24LC128T-I/SNTR-ND; ComponentLink1Description: Datasheet; ComponentLink1URL: http://www.microchip.com/mymicrochip/filehandler.aspx?ddocname=en011851; ComponentLink2Description: Digi-Key Listing; ComponentLink2URL: http://www.digikey.com/product-detail/en/24LC128T-I%2FSN/24LC128T-I%2FSNTR-ND/318680; Price: 0.5; Type: EEPROM; Device Package: 8-SOIC (0.154", 3.90mm Width); Operating Temperature: -40C ~ 85C; Memory Type: EEPROM; Memory Size: 128K (16K x 8); Speed: 400kHz
footprint MICROCHIP SOIC-8 150mil Wide
pins: 1 A0, 2 A1, 3 A2, 4 GND, 5 SDA, 6 SCL, 7 ~{WP}, 8 VCC

## 34AA04-I/ST
designator IC?, comment 4K (2 x 256 x 8)
IC SEEPROM 4KB DDR4 8TSSOP; Part Number: 34AA04-I/ST; Manufacturer: Microchip Technology; Memory Type: EEPROM; Speed: 100kHz, 400kHz, 1MHz; Interface: IC, 2-Wire Serial; Voltage - Supply: 1.7 V ~ 3.6 V; PartId: 8321; Supplier 1: Digi-Key; Supplier Part Number 1: 34AA04-I/ST-ND; ComponentLink1Description: Datasheet; ComponentLink1URL: http://www.microchip.com/mymicrochip/filehandler.aspx?ddocname=en568238; ComponentLink2Description: Digi-Key Listing; ComponentLink2URL: http://www.digikey.com/product-detail/en/34AA04-I%2FST/34AA04-I%2FST-ND/4842797; Price: 0.3; Type: EEPROM; Device Package: 8-TSSOP (0.173", 4.40mm Width); Operating Temperature: -40C ~ 85C; Memory Size: 4K (2 x 256 x 8)
footprint MICROCHIP TSSOP-8 ST
pins: 1 A0, 2 A1, 3 A2, 4 GND, 5 SDA, 6 SCL, 7 ~{WP}, 8 VCC

## 34LC02-I/ST
designator IC?, comment 2K (256 x 8)
IC EEPROM 2KBIT 1MHZ 8TSSOP; Part Number: 34LC02-I/ST; Manufacturer: Microchip Technology; Interface: IC, 2-Wire Serial; Voltage - Supply: 2.2 V ~ 5.5 V; PartId: 8317; Supplier 1: Digi-Key; Supplier Part Number 1: 34LC02-I/ST-ND; ComponentLink1Description: Datasheet; ComponentLink1URL: http://www.microchip.com/mymicrochip/filehandler.aspx?ddocname=en534333; ComponentLink2Description: Digi-Key Listing; ComponentLink2URL: http://www.digikey.com/product-detail/en/34LC02-I%2FST/34LC02-I%2FST-ND/1635966; Price: 0.26; Type: EEPROM; Device Package: 8-TSSOP (0.173", 4.40mm Width); Operating Temperature: -40C ~ 85C; Memory Type: EEPROM; Memory Size: 2K (256 x 8); Speed: 1MHz
footprint MICROCHIP TSSOP-8 ST
pins: 1 A0, 2 A1, 3 A2, 4 GND, 5 SDA, 6 SCL, 7 ~{WP}, 8 VCC

## CAT24C01WI-G
designator IC?, comment 1K (128 x 8)
IC EEPROM 1KBIT 400KHZ 8SOIC; Part Number: CAT24C01WI-G; Manufacturer: ON Semiconductor; Interface: IC, 2-Wire Serial; Voltage - Supply: 1.7 V ~ 5.5 V; PartId: 8365; Supplier 1: Digi-Key; Supplier Part Number 1: CAT24C01WI-G-ND; ComponentLink1Description: Datasheet; ComponentLink1URL: http://www.onsemi.com/pub_link/Collateral/CAT24C01-D.PDF; ComponentLink2Description: Digi-Key Listing; ComponentLink2URL: http://www.digikey.com/product-detail/en/CAT24C01WI-G/CAT24C01WI-G-ND/2061003; Price: 0.48; Type: EEPROM; Device Package: 8-SOIC (0.154", 3.90mm Width); Operating Temperature: -40C ~ 85C; Memory Type: EEPROM; Memory Size: 1K (128 x 8); Speed: 400kHz
footprint ON SEMI SO-8
pins: 1 A0, 2 A1, 3 A2, 4 GND, 5 SDA, 6 SCL, 7 ~{WP}, 8 VCC

## CAT24C01WI-GT3
designator IC?, comment 1K (128 x 8)
IC EEPROM 1KBIT 400KHZ 8SOIC; Part Number: CAT24C01WI-GT3; Manufacturer: ON Semiconductor; Interface: IC, 2-Wire Serial; Voltage - Supply: 1.7 V ~ 5.5 V; PartId: 8368; Supplier 1: Digi-Key; Supplier Part Number 1: CAT24C01WI-GT3TR-ND; ComponentLink1Description: Datasheet; ComponentLink1URL: http://www.onsemi.com/pub_link/Collateral/CAT24C01-D.PDF; ComponentLink2Description: Digi-Key Listing; ComponentLink2URL: http://www.digikey.com/product-detail/en/CAT24C01WI-GT3/CAT24C01WI-GT3TR-ND/1630987; Price: 0.186; Type: EEPROM; Device Package: 8-SOIC (0.154", 3.90mm Width); Operating Temperature: -40C ~ 85C; Memory Type: EEPROM; Memory Size: 1K (128 x 8); Speed: 400kHz
footprint ON SEMI SO-8
pins: 1 A0, 2 A1, 3 A2, 4 GND, 5 SDA, 6 SCL, 7 ~{WP}, 8 VCC

## CAT24C03WI-GT3
designator IC?, comment 2K (256 x 8)
IC EEPROM 2KBIT 400KHZ 8SOIC; Part Number: CAT24C03WI-GT3; Manufacturer: ON Semiconductor; Interface: IC, 2-Wire Serial; Voltage - Supply: 1.8 V ~ 5.5 V; PartId: 8372; Supplier 1: Digi-Key; Supplier Part Number 1: CAT24C03WI-GT3OSTR-ND; ComponentLink1Description: Datasheet; ComponentLink1URL: http://www.onsemi.com/pub_link/Collateral/CAT24C03-D.PDF; ComponentLink2Description: Digi-Key Listing; ComponentLink2URL: http://www.digikey.com/product-detail/en/CAT24C03WI-GT3/CAT24C03WI-GT3OSTR-ND/2194062; Price: 0.2175; Type: EEPROM; Device Package: 8-SOIC (0.154", 3.90mm Width); Operating Temperature: -40C ~ 85C; Memory Type: EEPROM; Memory Size: 2K (256 x 8); Speed: 400kHz
footprint ON SEMI SO-8
pins: 1 A0, 2 A1, 3 A2, 4 GND, 5 SDA, 6 SCL, 7 ~{WP}, 8 VCC

## CAT24C04WI-G
designator IC?, comment 4K (512 x 8)
IC EEPROM 4KBIT 400KHZ 8SOIC; Part Number: CAT24C04WI-G; Manufacturer: ON Semiconductor; Interface: IC, 2-Wire Serial; Voltage - Supply: 1.7 V ~ 5.5 V; PartId: 8363; Supplier 1: Digi-Key; Supplier Part Number 1: CAT24C04WI-G-ND; ComponentLink1Description: Datasheet; ComponentLink1URL: http://www.onsemi.com/pub_link/Collateral/CAT24C01-D.PDF; ComponentLink2Description: Digi-Key Listing; ComponentLink2URL: http://www.digikey.com/product-detail/en/CAT24C04WI-G/CAT24C04WI-G-ND/2061005; Price: 0.46; Type: EEPROM; Device Package: 8-SOIC (0.154", 3.90mm Width); Operating Temperature: -40C ~ 85C; Memory Type: EEPROM; Memory Size: 4K (512 x 8); Speed: 400kHz
footprint ON SEMI SO-8
pins: 1 A0, 2 A1, 3 A2, 4 GND, 5 SDA, 6 SCL, 7 ~{WP}, 8 VCC

## CAT24C04WI-GT3
designator IC?, comment 4K (512 x 8)
IC EEPROM 4KBIT 400KHZ 8SOIC; Part Number: CAT24C04WI-GT3; Manufacturer: ON Semiconductor; Interface: IC, 2-Wire Serial; Voltage - Supply: 1.7 V ~ 5.5 V; PartId: 8360; Supplier 1: Digi-Key; Supplier Part Number 1: CAT24C04WI-GT3OSTR-ND; ComponentLink1Description: Datasheet; ComponentLink1URL: http://www.onsemi.com/pub_link/Collateral/CAT24C01-D.PDF; ComponentLink2Description: Digi-Key Listing; ComponentLink2URL: http://www.digikey.com/product-detail/en/CAT24C04WI-GT3/CAT24C04WI-GT3OSTR-ND/2063302; Price: 0.1067; Type: EEPROM; Device Package: 8-SOIC (0.154", 3.90mm Width); Operating Temperature: -40C ~ 85C; Memory Type: EEPROM; Memory Size: 4K (512 x 8); Speed: 400kHz
footprint ON SEMI SO-8
pins: 1 A0, 2 A1, 3 A2, 4 GND, 5 SDA, 6 SCL, 7 ~{WP}, 8 VCC

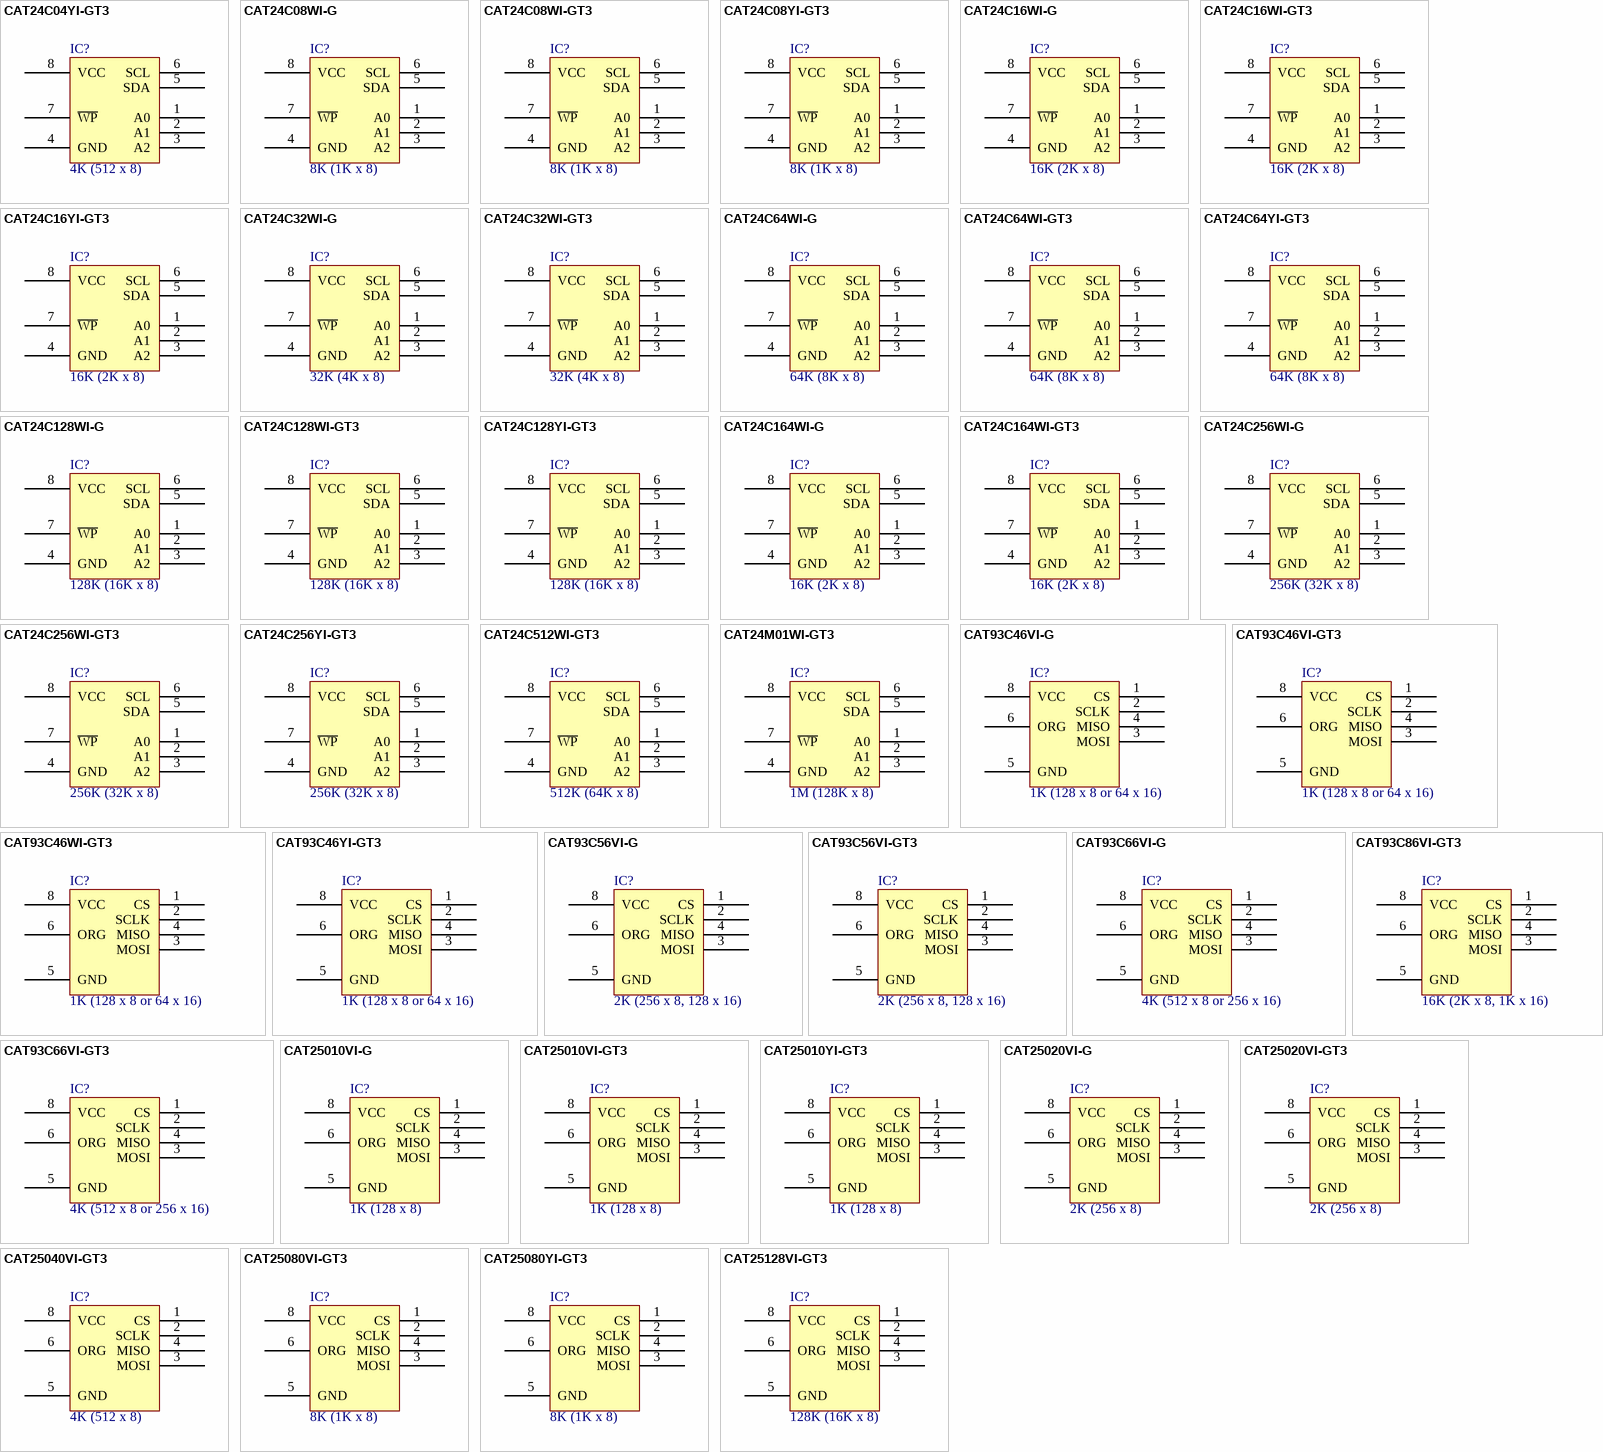
[diagram p1: symbols CAT24C04YI-GT3 to CAT25128VI-GT3]

## CAT24C04YI-GT3
designator IC?, comment 4K (512 x 8)
IC EEPROM 4KBIT 400KHZ 8TSSOP; Part Number: CAT24C04YI-GT3; Manufacturer: ON Semiconductor; Interface: IC, 2-Wire Serial; Voltage - Supply: 1.7 V ~ 5.5 V; PartId: 8309; Supplier 1: Digi-Key; Supplier Part Number 1: CAT24C04YI-GT3OSTR-ND; ComponentLink1Description: Datasheet; ComponentLink1URL: http://www.onsemi.com/pub_link/Collateral/CAT24C01-D.PDF; ComponentLink2Description: Digi-Key Listing; ComponentLink2URL: http://www.digikey.com/product-detail/en/CAT24C04YI-GT3/CAT24C04YI-GT3OSTR-ND/1630993; Price: 0.1067; Type: EEPROM; Device Package: 8-TSSOP (0.173", 4.40mm Width); Operating Temperature: -40C ~ 85C; Memory Type: EEPROM; Memory Size: 4K (512 x 8); Speed: 400kHz
footprint ON SEMI TSSOP-8
pins: 1 A0, 2 A1, 3 A2, 4 GND, 5 SDA, 6 SCL, 7 ~{WP}, 8 VCC

## CAT24C08WI-G
designator IC?, comment 8K (1K x 8)
IC EEPROM 8KBIT 400KHZ 8SOIC; Part Number: CAT24C08WI-G; Manufacturer: ON Semiconductor; Interface: IC, 2-Wire Serial; Voltage - Supply: 1.7 V ~ 5.5 V; PartId: 8367; Supplier 1: Digi-Key; Supplier Part Number 1: CAT24C08WI-G-ND; ComponentLink1Description: Datasheet; ComponentLink1URL: http://www.onsemi.com/pub_link/Collateral/CAT24C01-D.PDF; ComponentLink2Description: Digi-Key Listing; ComponentLink2URL: http://www.digikey.com/product-detail/en/CAT24C08WI-G/CAT24C08WI-G-ND/2061006; Price: 0.43; Type: EEPROM; Device Package: 8-SOIC (0.154", 3.90mm Width); Operating Temperature: -40C ~ 85C; Memory Type: EEPROM; Memory Size: 8K (1K x 8); Speed: 400kHz
footprint ON SEMI SO-8
pins: 1 A0, 2 A1, 3 A2, 4 GND, 5 SDA, 6 SCL, 7 ~{WP}, 8 VCC

## CAT24C08WI-GT3
designator IC?, comment 8K (1K x 8)
IC EEPROM 8KBIT 400KHZ 8SOIC; Part Number: CAT24C08WI-GT3; Manufacturer: ON Semiconductor; Interface: IC, 2-Wire Serial; Voltage - Supply: 1.7 V ~ 5.5 V; PartId: 8359; Supplier 1: Digi-Key; Supplier Part Number 1: CAT24C08WI-GT3TR-ND; ComponentLink1Description: Datasheet; ComponentLink1URL: http://www.onsemi.com/pub_link/Collateral/CAT24C01-D.PDF; ComponentLink2Description: Digi-Key Listing; ComponentLink2URL: http://www.digikey.com/product-detail/en/CAT24C08WI-GT3/CAT24C08WI-GT3TR-ND/1630998; Price: 0.1006; Type: EEPROM; Device Package: 8-SOIC (0.154", 3.90mm Width); Operating Temperature: -40C ~ 85C; Memory Type: EEPROM; Memory Size: 8K (1K x 8); Speed: 400kHz
footprint ON SEMI SO-8
pins: 1 A0, 2 A1, 3 A2, 4 GND, 5 SDA, 6 SCL, 7 ~{WP}, 8 VCC

## CAT24C08YI-GT3
designator IC?, comment 8K (1K x 8)
IC EEPROM 8KBIT 400KHZ 8TSSOP; Part Number: CAT24C08YI-GT3; Manufacturer: ON Semiconductor; Interface: IC, 2-Wire Serial; Voltage - Supply: 1.7 V ~ 5.5 V; PartId: 8308; Supplier 1: Digi-Key; Supplier Part Number 1: CAT24C08YI-GT3TR-ND; ComponentLink1Description: Datasheet; ComponentLink1URL: http://www.onsemi.com/pub_link/Collateral/CAT24C01-D.PDF; ComponentLink2Description: Digi-Key Listing; ComponentLink2URL: http://www.digikey.com/product-detail/en/CAT24C08YI-GT3/CAT24C08YI-GT3TR-ND/1630999; Price: 0.1006; Type: EEPROM; Device Package: 8-TSSOP (0.173", 4.40mm Width); Operating Temperature: -40C ~ 85C; Memory Type: EEPROM; Memory Size: 8K (1K x 8); Speed: 400kHz
footprint ON SEMI TSSOP-8
pins: 1 A0, 2 A1, 3 A2, 4 GND, 5 SDA, 6 SCL, 7 ~{WP}, 8 VCC

## CAT24C16WI-G
designator IC?, comment 16K (2K x 8)
IC EEPROM 16KBIT 400KHZ 8SOIC; Part Number: CAT24C16WI-G; Manufacturer: ON Semiconductor; Interface: IC, 2-Wire Serial; Voltage - Supply: 1.7 V ~ 5.5 V; PartId: 8366; Supplier 1: Digi-Key; Supplier Part Number 1: CAT24C16WI-G-ND; ComponentLink1Description: Datasheet; ComponentLink1URL: http://www.onsemi.com/pub/Collateral/CAT24C01-D.PDF; ComponentLink2Description: Digi-Key Listing; ComponentLink2URL: http://www.digikey.com/product-detail/en/CAT24C16WI-G/CAT24C16WI-G-ND/2061007; Price: 0.5; Type: EEPROM; Device Package: 8-SOIC (0.154", 3.90mm Width); Operating Temperature: -40C ~ 85C; Memory Type: EEPROM; Memory Size: 16K (2K x 8); Speed: 400kHz
footprint ON SEMI SO-8
pins: 1 A0, 2 A1, 3 A2, 4 GND, 5 SDA, 6 SCL, 7 ~{WP}, 8 VCC

## CAT24C16WI-GT3
designator IC?, comment 16K (2K x 8)
IC EEPROM 16KBIT 400KHZ 8SOIC; Part Number: CAT24C16WI-GT3; Manufacturer: ON Semiconductor; Interface: IC, 2-Wire Serial; Voltage - Supply: 1.7 V ~ 5.5 V; PartId: 8361; Supplier 1: Digi-Key; Supplier Part Number 1: CAT24C16WI-GT3TR-ND; ComponentLink1Description: Datasheet; ComponentLink1URL: http://www.onsemi.com/pub/Collateral/CAT24C01-D.PDF; ComponentLink2Description: Digi-Key Listing; ComponentLink2URL: http://www.digikey.com/product-detail/en/CAT24C16WI-GT3/CAT24C16WI-GT3TR-ND/1631003; Price: 0.1062; Type: EEPROM; Device Package: 8-SOIC (0.154", 3.90mm Width); Operating Temperature: -40C ~ 85C; Memory Type: EEPROM; Memory Size: 16K (2K x 8); Speed: 400kHz
footprint ON SEMI SO-8
pins: 1 A0, 2 A1, 3 A2, 4 GND, 5 SDA, 6 SCL, 7 ~{WP}, 8 VCC

## CAT24C16YI-GT3
designator IC?, comment 16K (2K x 8)
IC EEPROM 16KBIT 400KHZ 8TSSOP; Part Number: CAT24C16YI-GT3; Manufacturer: ON Semiconductor; Interface: IC, 2-Wire Serial; Voltage - Supply: 1.7 V ~ 5.5 V; PartId: 8310; Supplier 1: Digi-Key; Supplier Part Number 1: CAT24C16YI-GT3TR-ND; ComponentLink1Description: Datasheet; ComponentLink1URL: http://www.onsemi.com/pub/Collateral/CAT24C01-D.PDF; ComponentLink2Description: Digi-Key Listing; ComponentLink2URL: http://www.digikey.com/product-detail/en/CAT24C16YI-GT3/CAT24C16YI-GT3TR-ND/1631004; Price: 0.1062; Type: EEPROM; Device Package: 8-TSSOP (0.173", 4.40mm Width); Operating Temperature: -40C ~ 85C; Memory Type: EEPROM; Memory Size: 16K (2K x 8); Speed: 400kHz
footprint ON SEMI TSSOP-8
pins: 1 A0, 2 A1, 3 A2, 4 GND, 5 SDA, 6 SCL, 7 ~{WP}, 8 VCC

## CAT24C32WI-G
designator IC?, comment 32K (4K x 8)
IC EEPROM 32KBIT 400KHZ 8SOIC; Part Number: CAT24C32WI-G; Manufacturer: ON Semiconductor; Speed: 1MHz; Interface: IC, 2-Wire Serial; Voltage - Supply: 1.7 V ~ 5.5 V; PartId: 8369; Supplier 1: Digi-Key; Supplier Part Number 1: CAT24C32WI-GOS-ND; ComponentLink1Description: Datasheet; ComponentLink1URL: http://www.onsemi.com/pub_link/Collateral/CAT24C32-D.PDF; ComponentLink2Description: Digi-Key Listing; ComponentLink2URL: http://www.digikey.com/product-detail/en/CAT24C32WI-G/CAT24C32WI-GOS-ND/2061011; Price: 0.5; Type: EEPROM; Device Package: 8-SOIC (0.154", 3.90mm Width); Operating Temperature: -40C ~ 85C; Memory Type: EEPROM; Memory Size: 32K (4K x 8)
footprint ON SEMI SO-8
pins: 1 A0, 2 A1, 3 A2, 4 GND, 5 SDA, 6 SCL, 7 ~{WP}, 8 VCC

## CAT24C32WI-GT3
designator IC?, comment 32K (4K x 8)
IC EEPROM 32KBIT 400KHZ 8SOIC; Part Number: CAT24C32WI-GT3; Manufacturer: ON Semiconductor; Speed: 1MHz; Interface: IC, 2-Wire Serial; Voltage - Supply: 1.7 V ~ 5.5 V; PartId: 8362; Supplier 1: Digi-Key; Supplier Part Number 1: CAT24C32WI-GT3TR-ND; ComponentLink1Description: Datasheet; ComponentLink1URL: http://www.onsemi.com/pub_link/Collateral/CAT24C32-D.PDF; ComponentLink2Description: Digi-Key Listing; ComponentLink2URL: http://www.digikey.com/product-detail/en/CAT24C32WI-GT3/CAT24C32WI-GT3TR-ND/1631007; Price: 0.1404; Type: EEPROM; Device Package: 8-SOIC (0.154", 3.90mm Width); Operating Temperature: -40C ~ 85C; Memory Type: EEPROM; Memory Size: 32K (4K x 8)
footprint ON SEMI SO-8
pins: 1 A0, 2 A1, 3 A2, 4 GND, 5 SDA, 6 SCL, 7 ~{WP}, 8 VCC

## CAT24C64WI-G
designator IC?, comment 64K (8K x 8)
IC EEPROM 64KBIT 400KHZ 8SOIC; Part Number: CAT24C64WI-G; Manufacturer: ON Semiconductor; Interface: IC, 2-Wire Serial; Voltage - Supply: 1.7 V ~ 5.5 V; PartId: 8370; Supplier 1: Digi-Key; Supplier Part Number 1: CAT24C64WI-G-ND; ComponentLink1Description: Datasheet; ComponentLink1URL: http://www.onsemi.com/pub_link/Collateral/CAT24C64-D.PDF; ComponentLink2Description: Digi-Key Listing; ComponentLink2URL: http://www.digikey.com/product-detail/en/CAT24C64WI-G/CAT24C64WI-G-ND/2061012; Price: 0.52; Type: EEPROM; Device Package: 8-SOIC (0.154", 3.90mm Width); Operating Temperature: -40C ~ 85C; Memory Type: EEPROM; Memory Size: 64K (8K x 8); Speed: 400kHz
footprint ON SEMI SO-8
pins: 1 A0, 2 A1, 3 A2, 4 GND, 5 SDA, 6 SCL, 7 ~{WP}, 8 VCC

## CAT24C64WI-GT3
designator IC?, comment 64K (8K x 8)
IC EEPROM 64KBIT 400KHZ 8SOIC; Part Number: CAT24C64WI-GT3; Manufacturer: ON Semiconductor; Interface: IC, 2-Wire Serial; Voltage - Supply: 1.7 V ~ 5.5 V; PartId: 8364; Supplier 1: Digi-Key; Supplier Part Number 1: CAT24C64WI-GT3TR-ND; ComponentLink1Description: Datasheet; ComponentLink1URL: http://www.onsemi.com/pub_link/Collateral/CAT24C64-D.PDF; ComponentLink2Description: Digi-Key Listing; ComponentLink2URL: http://www.digikey.com/product-detail/en/CAT24C64WI-GT3/CAT24C64WI-GT3TR-ND/1631010; Price: 0.148; Type: EEPROM; Device Package: 8-SOIC (0.154", 3.90mm Width); Operating Temperature: -40C ~ 85C; Memory Type: EEPROM; Memory Size: 64K (8K x 8); Speed: 400kHz
footprint ON SEMI SO-8
pins: 1 A0, 2 A1, 3 A2, 4 GND, 5 SDA, 6 SCL, 7 ~{WP}, 8 VCC

## CAT24C64YI-GT3
designator IC?, comment 64K (8K x 8)
IC EEPROM 64KBIT 400KHZ 8TSSOP; Part Number: CAT24C64YI-GT3; Manufacturer: ON Semiconductor; Interface: IC, 2-Wire Serial; Voltage - Supply: 1.7 V ~ 5.5 V; PartId: 8311; Supplier 1: Digi-Key; Supplier Part Number 1: CAT24C64YI-GT3OSTR-ND; ComponentLink1Description: Datasheet; ComponentLink1URL: http://www.onsemi.com/pub_link/Collateral/CAT24C64-D.PDF; ComponentLink2Description: Digi-Key Listing; ComponentLink2URL: http://www.digikey.com/product-detail/en/CAT24C64YI-GT3/CAT24C64YI-GT3OSTR-ND/1631011; Price: 0.148; Type: EEPROM; Device Package: 8-TSSOP (0.173", 4.40mm Width); Operating Temperature: -40C ~ 85C; Memory Type: EEPROM; Memory Size: 64K (8K x 8); Speed: 400kHz
footprint ON SEMI TSSOP-8
pins: 1 A0, 2 A1, 3 A2, 4 GND, 5 SDA, 6 SCL, 7 ~{WP}, 8 VCC

## CAT24C128WI-G
designator IC?, comment 128K (16K x 8)
IC EEPROM 128KBIT 400KHZ 8SOIC; Part Number: CAT24C128WI-G; Manufacturer: ON Semiconductor; Interface: IC, 2-Wire Serial; Voltage - Supply: 1.8 V ~ 5.5 V; PartId: 8375; Supplier 1: Digi-Key; Supplier Part Number 1: CAT24C128WI-G-ND; ComponentLink1Description: Datasheet; ComponentLink1URL: http://www.onsemi.com/pub_link/Collateral/CAT24C128-D.PDF; ComponentLink2Description: Digi-Key Listing; ComponentLink2URL: http://www.digikey.com/product-detail/en/CAT24C128WI-G/CAT24C128WI-G-ND/2061008; Price: 0.69; Type: EEPROM; Device Package: 8-SOIC (0.154", 3.90mm Width); Operating Temperature: -40C ~ 85C; Memory Type: EEPROM; Memory Size: 128K (16K x 8); Speed: 400kHz
footprint ON SEMI SO-8
pins: 1 A0, 2 A1, 3 A2, 4 GND, 5 SDA, 6 SCL, 7 ~{WP}, 8 VCC

## CAT24C128WI-GT3
designator IC?, comment 128K (16K x 8)
IC EEPROM 128KBIT 400KHZ 8SOIC; Part Number: CAT24C128WI-GT3; Manufacturer: ON Semiconductor; Interface: IC, 2-Wire Serial; Voltage - Supply: 1.8 V ~ 5.5 V; PartId: 8371; Supplier 1: Digi-Key; Supplier Part Number 1: CAT24C128WI-GT3TR-ND; ComponentLink1Description: Datasheet; ComponentLink1URL: http://www.onsemi.com/pub_link/Collateral/CAT24C128-D.PDF; ComponentLink2Description: Digi-Key Listing; ComponentLink2URL: http://www.digikey.com/product-detail/en/CAT24C128WI-GT3/CAT24C128WI-GT3TR-ND/1631001; Price: 0.2139; Type: EEPROM; Device Package: 8-SOIC (0.154", 3.90mm Width); Operating Temperature: -40C ~ 85C; Memory Type: EEPROM; Memory Size: 128K (16K x 8); Speed: 400kHz
footprint ON SEMI SO-8
pins: 1 A0, 2 A1, 3 A2, 4 GND, 5 SDA, 6 SCL, 7 ~{WP}, 8 VCC

## CAT24C128YI-GT3
designator IC?, comment 128K (16K x 8)
IC EEPROM 128KBIT 400KHZ 8TSSOP; Part Number: CAT24C128YI-GT3; Manufacturer: ON Semiconductor; Interface: IC, 2-Wire Serial; Voltage - Supply: 1.8 V ~ 5.5 V; PartId: 8312; Supplier 1: Digi-Key; Supplier Part Number 1: CAT24C128YI-GT3OSTR-ND; ComponentLink1Description: Datasheet; ComponentLink1URL: http://www.onsemi.com/pub_link/Collateral/CAT24C128-D.PDF; ComponentLink2Description: Digi-Key Listing; ComponentLink2URL: http://www.digikey.com/product-detail/en/CAT24C128YI-GT3/CAT24C128YI-GT3OSTR-ND/1856939; Price: 0.2139; Type: EEPROM; Device Package: 8-TSSOP (0.173", 4.40mm Width); Operating Temperature: -40C ~ 85C; Memory Type: EEPROM; Memory Size: 128K (16K x 8); Speed: 400kHz
footprint ON SEMI TSSOP-8
pins: 1 A0, 2 A1, 3 A2, 4 GND, 5 SDA, 6 SCL, 7 ~{WP}, 8 VCC

## CAT24C164WI-G
designator IC?, comment 16K (2K x 8)
IC EEPROM 16KBIT 400KHZ 8SOIC; Part Number: CAT24C164WI-G; Manufacturer: ON Semiconductor; Interface: IC, 2-Wire Serial; Voltage - Supply: 1.8 V ~ 5.5 V; PartId: 8380; Supplier 1: Digi-Key; Supplier Part Number 1: CAT24C164WI-G-ND; ComponentLink1Description: Datasheet; ComponentLink1URL: http://www.onsemi.com/pub_link/Collateral/CAT24C164-D.PDF; ComponentLink2Description: Digi-Key Listing; ComponentLink2URL: http://www.digikey.com/product-detail/en/CAT24C164WI-G/CAT24C164WI-G-ND/2061009; Price: 1.44; Type: EEPROM; Device Package: 8-SOIC (0.154", 3.90mm Width); Operating Temperature: -40C ~ 85C; Memory Type: EEPROM; Memory Size: 16K (2K x 8); Speed: 400kHz
footprint ON SEMI SO-8
pins: 1 A0, 2 A1, 3 A2, 4 GND, 5 SDA, 6 SCL, 7 ~{WP}, 8 VCC

## CAT24C164WI-GT3
designator IC?, comment 16K (2K x 8)
IC EEPROM 16KBIT 400KHZ 8SOIC; Part Number: CAT24C164WI-GT3; Manufacturer: ON Semiconductor; Interface: IC, 2-Wire Serial; Voltage - Supply: 1.8 V ~ 5.5 V; PartId: 8379; Supplier 1: Digi-Key; Supplier Part Number 1: CAT24C164WI-GT3OSTR-ND; ComponentLink1Description: Datasheet; ComponentLink1URL: http://www.onsemi.com/pub_link/Collateral/CAT24C164-D.PDF; ComponentLink2Description: Digi-Key Listing; ComponentLink2URL: http://www.digikey.com/product-detail/en/CAT24C164WI-GT3/CAT24C164WI-GT3OSTR-ND/2063304; Price: 0.532; Type: EEPROM; Device Package: 8-SOIC (0.154", 3.90mm Width); Operating Temperature: -40C ~ 85C; Memory Type: EEPROM; Memory Size: 16K (2K x 8); Speed: 400kHz
footprint ON SEMI SO-8
pins: 1 A0, 2 A1, 3 A2, 4 GND, 5 SDA, 6 SCL, 7 ~{WP}, 8 VCC

## CAT24C256WI-G
designator IC?, comment 256K (32K x 8)
IC EEPROM 256KBIT 400KHZ 8SOIC; Part Number: CAT24C256WI-G; Manufacturer: ON Semiconductor; Interface: IC, 2-Wire Serial; Voltage - Supply: 1.8 V ~ 5.5 V; PartId: 8376; Supplier 1: Digi-Key; Supplier Part Number 1: CAT24C256WI-G-ND; ComponentLink1Description: Datasheet; ComponentLink1URL: http://www.onsemi.com/pub_link/Collateral/CAT24C256-D.PDF; ComponentLink2Description: Digi-Key Listing; ComponentLink2URL: http://www.digikey.com/product-detail/en/CAT24C256WI-G/CAT24C256WI-G-ND/1853832; Price: 0.75; Type: EEPROM; Device Package: 8-SOIC (0.154", 3.90mm Width); Operating Temperature: -40C ~ 85C; Memory Type: EEPROM; Memory Size: 256K (32K x 8); Speed: 400kHz
footprint ON SEMI SO-8
pins: 1 A0, 2 A1, 3 A2, 4 GND, 5 SDA, 6 SCL, 7 ~{WP}, 8 VCC

## CAT24C256WI-GT3
designator IC?, comment 256K (32K x 8)
IC EEPROM 256KBIT 400KHZ 8SOIC; Part Number: CAT24C256WI-GT3; Manufacturer: ON Semiconductor; Interface: IC, 2-Wire Serial; Voltage - Supply: 1.8 V ~ 5.5 V; PartId: 8373; Supplier 1: Digi-Key; Supplier Part Number 1: CAT24C256WI-GT3OSTR-ND; ComponentLink1Description: Datasheet; ComponentLink1URL: http://www.onsemi.com/pub_link/Collateral/CAT24C256-D.PDF; ComponentLink2Description: Digi-Key Listing; ComponentLink2URL: http://www.digikey.com/product-detail/en/CAT24C256WI-GT3/CAT24C256WI-GT3OSTR-ND/1856934; Price: 0.2317; Type: EEPROM; Device Package: 8-SOIC (0.154", 3.90mm Width); Operating Temperature: -40C ~ 85C; Memory Type: EEPROM; Memory Size: 256K (32K x 8); Speed: 400kHz
footprint ON SEMI SO-8
pins: 1 A0, 2 A1, 3 A2, 4 GND, 5 SDA, 6 SCL, 7 ~{WP}, 8 VCC

## CAT24C256YI-GT3
designator IC?, comment 256K (32K x 8)
IC EEPROM 256KBIT 400KHZ 8TSSOP; Part Number: CAT24C256YI-GT3; Manufacturer: ON Semiconductor; Interface: IC, 2-Wire Serial; Voltage - Supply: 1.8 V ~ 5.5 V; PartId: 8314; Supplier 1: Digi-Key; Supplier Part Number 1: CAT24C256YI-GT3OSTR-ND; ComponentLink1Description: Datasheet; ComponentLink1URL: http://www.onsemi.com/pub_link/Collateral/CAT24C256-D.PDF; ComponentLink2Description: Digi-Key Listing; ComponentLink2URL: http://www.digikey.com/product-detail/en/CAT24C256YI-GT3/CAT24C256YI-GT3OSTR-ND/1856937; Price: 0.2317; Type: EEPROM; Device Package: 8-TSSOP (0.173", 4.40mm Width); Operating Temperature: -40C ~ 85C; Memory Type: EEPROM; Memory Size: 256K (32K x 8); Speed: 400kHz
footprint ON SEMI TSSOP-8
pins: 1 A0, 2 A1, 3 A2, 4 GND, 5 SDA, 6 SCL, 7 ~{WP}, 8 VCC